# Altium footprint library BARREL_2.5x5.5MM_0.PcbLib: 1 footprints
Each footprint in its own frame and in the unit in brackets; x right, y up, seen from the top. Pads: shape width x height; smd on the part's side, far side on the other; paste and mask are expansions set on the pad; w line width, h text height; cw(c..) or ccw(c..) is an arc to the next point about the centre after c.
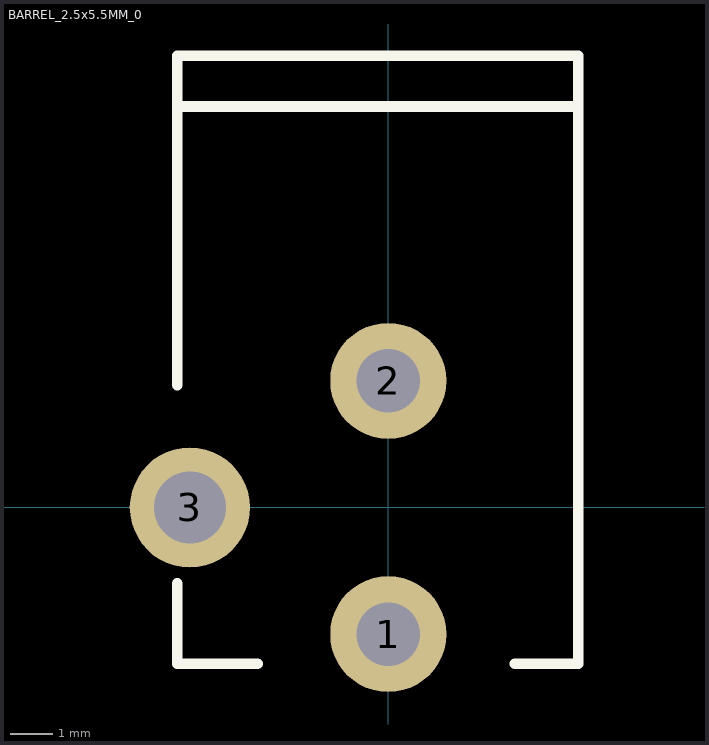
[diagram p0: the footprint, top view; thin cyan lines are the x and y axes]

## BARREL_2.5x5.5MM_0 [mm] "Barrel jack, 5mm, PJ-102B"
pads (3):
  round 2.75 hole 1.5: 1(0,-3) 2(0,3)
  round 2.85 hole 1.7: 3(-4.7,0)
Top Overlay:
  lines w0.254: -5,-1.8 -5,-3.7 -3.1,-3.7 ; -5,2.9 -5,10.7 4.5,10.7 4.5,-3.7 3,-3.7 ; -5,9.5 4.5,9.5
3D body "CUI_PJ-102B.sldprt": height 11.05, standoff -3.45, extent -4.9,-3.7 4.5,10.7